# EAGLE library part JST_PH_8 (library stepOSP)
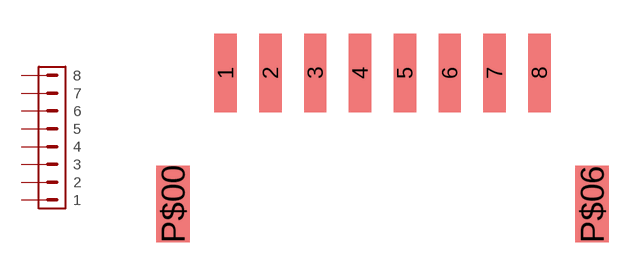
[diagram p22: symbol with the pads of PH_CON_8; footprint PH_CON_8]

Designator prefix -

## JST_PH_8  [PH_CON_8]
1  1
2  2
3  3
4  4
5  5
6  6
7  7
8  8

## Footprint PH_CON_8 (pad centres in mm)
smd 1 x 3.5: 1 -7,7.45; 2 -5,7.45; 3 -3,7.45; 4 -1,7.45; 5 1,7.45; 6 3,7.45; 7 5,7.45; 8 7,7.45
smd 1.5 x 3.4: P$00 -9.35,1.6; P$06 9.35,1.6